# Altium schematic symbol library TRAN FET.SchLib: 3 symbols
Pins are listed as number, name and electrical type; pins without a type are passive.

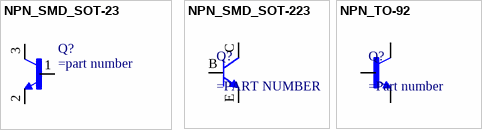
[diagram p0: symbols NPN_SMD_SOT-23 to NPN_TO-92]

## NPN_SMD_SOT-23
designator Q?
pins: 1 B, 2 E, 3 C

## NPN_SMD_SOT-223
designator Q?
pins: B, C, E

## NPN_TO-92
designator Q?
pins: 1 C, 2 B, 3 E